# Altium schematic symbol library Oscillators.SchLib: 1 symbol
Pins are listed as number, name and electrical type; pins without a type are passive.

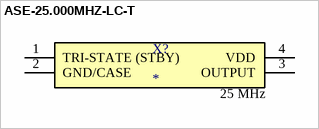
[diagram p0: symbol ASE-25.000MHZ-LC-T]

## ASE-25.000MHZ-LC-T
designator X?  Frequency: 25 MHz
XTAL OSC XO 25.0000MHZ CMOS SMD; Supplier 1: Digi-Key; Supplier 2: Farnell; Supplier 3: Mouser; Supplier Part Number 1: 535-9568-6-ND; Supplier Part Number 2: 2308704; Supplier Part Number 3: 815-ASE25.000MHZLCT
footprint ABRACON_ASE
pins: 1 TRI-STATE (STBY), 2 GND/CASE, 3 OUTPUT, 4 VDD